# Altium schematic symbol library Schlib12.SchLib: 1 symbol
Pins are listed as number, name and electrical type; pins without a type are passive.

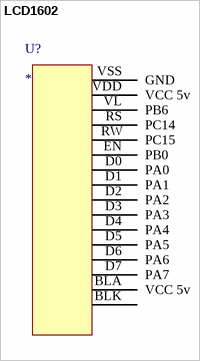
[diagram p0: symbol LCD1602]

## LCD1602
designator U?
pins: BLA VCC 5v, BLK, D0 PA0, D1 PA1, D2 PA2, D3 PA3, D4 PA4, D5 PA5, D6 PA6, D7 PA7, EN PB0, RS PC14, RW PC15, VDD VCC 5v, VL PB6, VSS GND